# EAGLE library part SIM_CARD (library MyLib)
Nano SIM card
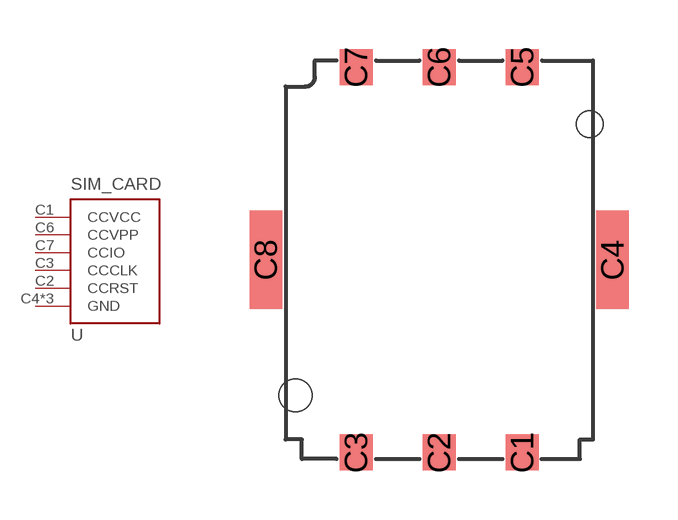
[diagram p3: symbol with the pads of SIM8050; footprint SIM8050]

Designator prefix -

## SIM_CARD  [SIM8050]
C1  CCVCC  pwr
C2  CCRST
C3  CCCLK
C4  GND  pwr
C5  GND  pwr
C6  CCVPP  pwr
C7  CCIO
C8  GND  pwr

## Footprint SIM8050 (pad centres in mm)
Nano SIM card socket
smd 1 x 1.1: C1 2.54,-5.9; C2 0,-5.9; C3 -2.54,-5.9; C5 2.54,5.9; C6 0,5.9; C7 -2.54,5.9
smd 1 x 3: C4 5.3,0; C8 -5.3,0
hole 0.8 at 4.6,4.15
hole 1 at -4.4,-4.15